# Altium schematic symbol library ALTAIR_PD_DigitalLogic.SchLib: 2 symbols
Pins are listed as number, name and electrical type; pins without a type are passive.

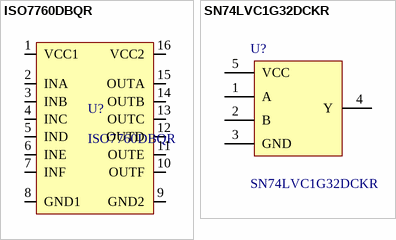
[diagram p0: symbols ISO7760DBQR to SN74LVC1G32DCKR]

## ISO7760DBQR
designator U?
Digital Isolator 6-Channel 6/0 Inputs 16SSOP
pins: 1 VCC1, 2 INA, 3 INB, 4 INC, 5 IND, 6 INE, 7 INF, 8 GND1, 9 GND2, 10 OUTF, 11 OUTE, 12 OUTD, 13 OUTC, 14 OUTB, 15 OUTA, 16 VCC2

## SN74LVC1G32DCKR
designator U?
OR Gate 1 Channel Low-Voltage CMOS SC-70-5; Manufacturer: Texas Instruments; Current - Output High, Low: 32mA, 32mA; Current - Quiescent (Max): 10µA; Logic Level - High: 1.7V ~ 2V; Logic Level - Low: 0.7V ~ 0.8V; Logic Type: OR Gate; Max Propagation Delay @ V, Max CL: 4ns @ 5V, 50pF; Number of Circuits: 1; Number of Inputs: 2; Voltage - Supply: 1.65V ~ 5.5V; Part Number: SN74LVC1G32DCKR; ComponentLink1Description: Datasheet; ComponentLink1URL: http://www.ti.com/general/docs/suppproductinfo.tsp?distId=10&gotoUrl=http%3A%2F%2Fwww.ti.com%2Flit%2Fgpn%2Fsn74lvc1g32; ComponentLink2Description: DigiKey Link; ComponentLink2URL: http://digikey.com/product-detail/en/texas-instruments/SN74LVC1G32DCKR/296-9848-1-ND/380106; Device Package: 5-TSSOP, SC-70-5, SOT-353; LastUpdated: 2020-01-31 3:20:00 AM; Lifecycle Status: Active; Minimum Order: 1; Mounting Type: Surface Mount; Operating Temperature: -40°C ~ 125°C; Package / Case: 5-TSSOP, SC-70-5, SOT-353; Packaging: TapeAndReel; PartId: 3; Part Status: Active; Price: 0.05; Series: 74LVC; Supplier 1: DigiKey; Supplier Part Number 1: 296-9848-1-ND; Supplier Device Package: SC-70-5
footprint SOT353-5 NON-IPC CUSTOM (SC70 5-pin)
pins: 1 A, 2 B, 3 GND, 4 Y, 5 VCC